# Altium schematic symbol library OSC-2-PIN.SchLib: 1 symbol
Pins are listed as number, name and electrical type; pins without a type are passive.

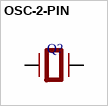
[diagram p0: symbol OSC-2-PIN]

## OSC-2-PIN
designator Q?
footprint OSC-QSMD12.3x4.5x4.2
footprint OSC-QSMD3.2x1.5x0.75
footprint CAP-0402
pins: 1, 2